# Altium footprint library Connectors.PcbLib: 56 footprints (part 4 of 4)
Each footprint in its own frame and in the unit in brackets; x right, y up, seen from the top. Pads: shape width x height; smd on the part's side, far side on the other; paste and mask are expansions set on the pad; w line width, h text height; cw(c..) or ccw(c..) is an arc to the next point about the centre after c.
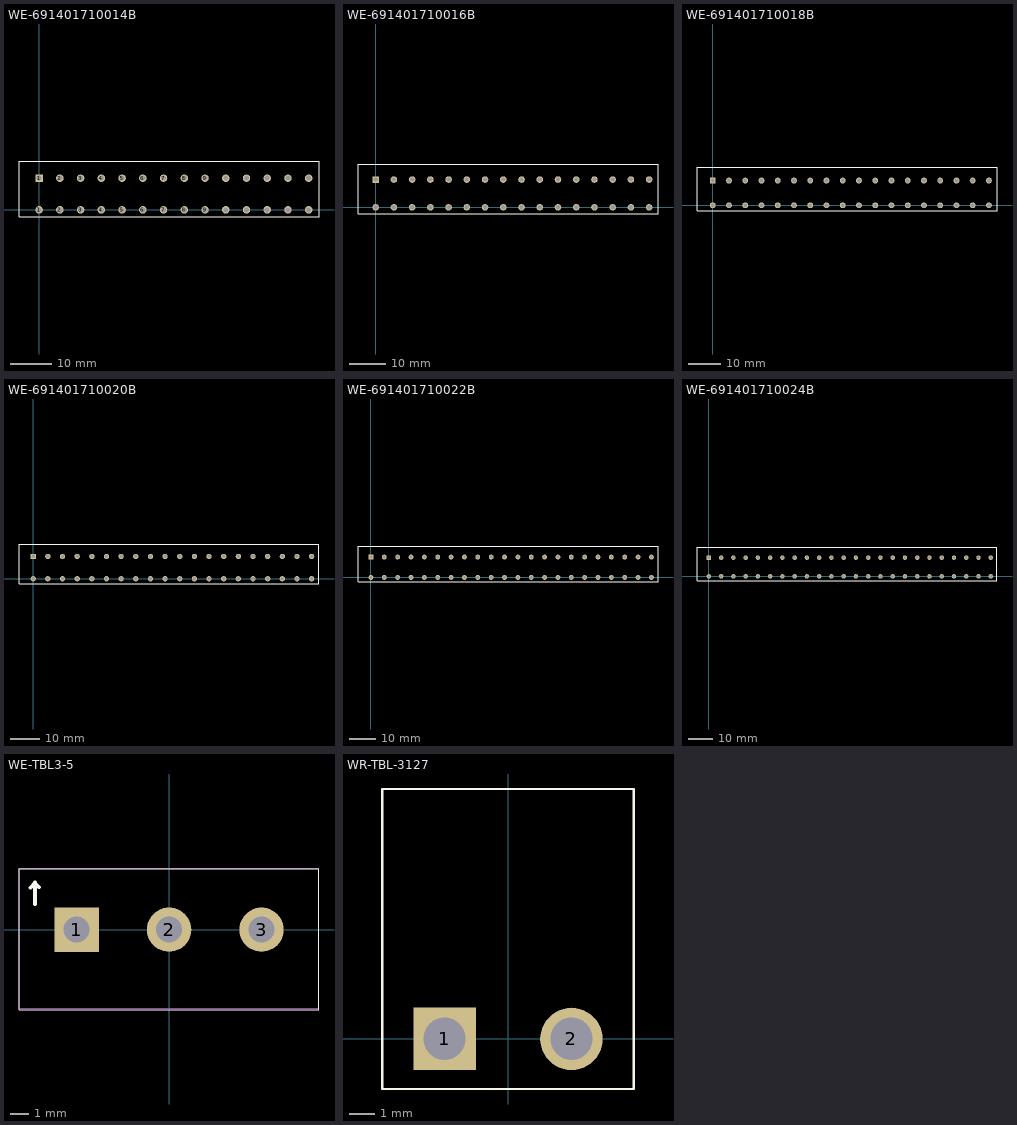
[diagram p3: the footprints below, top view; thin cyan lines are the x and y axes]

## WE-691401710014B [mm] "WE-691401710014B"
pads (28):
  round 1.8 hole 1.2: 1(0,0) 2(5,0) 2(5,7.62) 3(10,0) 3(10,7.62) 4(15,0) 4(15,7.62) 5(20,0) 5(20,7.62) 6(25,0) 6(25,7.62) 7(30,0) 7(30,7.62) 8(35,0) 8(35,7.62) 9(40,0) 9(40,7.62) 10(45,0) 10(45,7.62) 11(50,0) 11(50,7.62) 12(55,0) 12(55,7.62) 13(60,0) 13(60,7.62) 14(65,0) 14(65,7.62)
  rect 1.8x1.8 hole 1.2: 1(0,7.62)
Top Overlay:
  lines w0.2: -4.85,-1.71 67.48,-1.71 67.48,11.76 -4.85,11.76 -4.85,-1.71
3D body "691401710014B.stp": height 13.6, standoff -3.2, extent -4.98,-1.75 67.56,12.45

## WE-691401710016B [mm] "WE-691401710016B"
pads (32):
  round 1.8 hole 1.2: 1(0,0) 2(5,0) 2(5,7.62) 3(10,0) 3(10,7.62) 4(15,0) 4(15,7.62) 5(20,0) 5(20,7.62) 6(25,0) 6(25,7.62) 7(30,0) 7(30,7.62) 8(35,0) 8(35,7.62) 9(40,0) 9(40,7.62) 10(45,0) 10(45,7.62) 11(50,0) 11(50,7.62) 12(55,0) 12(55,7.62) 13(60,0) 13(60,7.62) 14(65,0) 14(65,7.62) 15(70,0) 15(70,7.62) 16(75,0) 16(75,7.62)
  rect 1.8x1.8 hole 1.2: 1(0,7.62)
Top Overlay:
  lines w0.2: -4.85,-1.71 -4.85,11.76 77.43,11.76 77.43,-1.71 -4.85,-1.71
3D body "691401710016B.stp": height 13.6, standoff -3.2, extent -4.98,-1.75 77.56,12.45

## WE-691401710018B [mm] "WE-691401710018B"
pads (36):
  round 1.8 hole 1.2: 1(0,0) 2(5,0) 2(5,7.62) 3(10,0) 3(10,7.62) 4(15,0) 4(15,7.62) 5(20,0) 5(20,7.62) 6(25,0) 6(25,7.62) 7(30,0) 7(30,7.62) 8(35,0) 8(35,7.62) 9(40,0) 9(40,7.62) 10(45,0) 10(45,7.62) 11(50,0) 11(50,7.62) 12(55,0) 12(55,7.62) 13(60,0) 13(60,7.62) 14(65,0) 14(65,7.62) 15(70,0) 15(70,7.62) 16(75,0) 16(75,7.62) 17(80,0) 17(80,7.62) 18(85,0) 18(85,7.62)
  rect 1.8x1.8 hole 1.2: 1(0,7.62)
Top Overlay:
  lines w0.2: -4.85,-1.71 87.49,-1.71 87.49,11.76 -4.85,11.76 -4.85,-1.71
3D body "691401710018B.stp": height 13.6, standoff -3.2, extent -4.98,-1.75 87.56,12.45

## WE-691401710020B [mm] "WE-691401710020B"
pads (40):
  round 1.8 hole 1.2: 1(0,0) 2(5,0) 2(5,7.62) 3(10,0) 3(10,7.62) 4(15,0) 4(15,7.62) 5(20,0) 5(20,7.62) 6(25,0) 6(25,7.62) 7(30,0) 7(30,7.62) 8(35,0) 8(35,7.62) 9(40,0) 9(40,7.62) 10(45,0) 10(45,7.62) 11(50,0) 11(50,7.62) 12(55,0) 12(55,7.62) 13(60,0) 13(60,7.62) 14(65,0) 14(65,7.62) 15(70,0) 15(70,7.62) 16(75,0) 16(75,7.62) 17(80,0) 17(80,7.62) 18(85,0) 18(85,7.62) 19(90,0) 19(90,7.62) 20(95,0) 20(95,7.62)
  rect 1.8x1.8 hole 1.2: 1(0,7.62)
Top Overlay:
  lines w0.2: -4.85,-1.71 97.52,-1.71 97.52,11.76 -4.85,11.76 -4.85,-1.71
3D body "691401710020B.stp": height 13.6, standoff -3.2, extent -4.98,-1.75 97.56,12.45

## WE-691401710022B [mm] "WE-691401710022B"
pads (44):
  round 1.8 hole 1.2: 1(0,0) 2(5,0) 2(5,7.62) 3(10,0) 3(10,7.62) 4(15,0) 4(15,7.62) 5(20,0) 5(20,7.62) 6(25,0) 6(25,7.62) 7(30,0) 7(30,7.62) 8(35,0) 8(35,7.62) 9(40,0) 9(40,7.62) 10(45,0) 10(45,7.62) 11(50,0) 11(50,7.62) 12(55,0) 12(55,7.62) 13(60,0) 13(60,7.62) 14(65,0) 14(65,7.62) 15(70,0) 15(70,7.62) 16(75,0) 16(75,7.62) 17(80,0) 17(80,7.62) 18(85,0) 18(85,7.62) 19(90,0) 19(90,7.62) 20(95,0) 20(95,7.62) 21(100,0) 21(100,7.62) 22(105,0) 22(105,7.62)
  rect 1.8x1.8 hole 1.2: 1(0,7.62)
Top Overlay:
  lines w0.2: -4.85,-1.71 -4.85,11.76 107.46,11.76 107.46,-1.71 -4.85,-1.71
3D body "691401710022B.stp": height 13.6, standoff -3.2, extent -4.98,-1.75 107.56,12.45

## WE-691401710024B [mm] "WE-691401710024B"
pads (48):
  round 1.8 hole 1.2: 1(0,0) 2(5,0) 2(5,7.62) 3(10,0) 3(10,7.62) 4(15,0) 4(15,7.62) 5(20,0) 5(20,7.62) 6(25,0) 6(25,7.62) 7(30,0) 7(30,7.62) 8(35,0) 8(35,7.62) 9(40,0) 9(40,7.62) 10(45,0) 10(45,7.62) 11(50,0) 11(50,7.62) 12(55,0) 12(55,7.62) 13(60,0) 13(60,7.62) 14(65,0) 14(65,7.62) 15(70,0) 15(70,7.62) 16(75,0) 16(75,7.62) 17(80,0) 17(80,7.62) 18(85,0) 18(85,7.62) 19(90,0) 19(90,7.62) 20(95,0) 20(95,7.62) 21(100,0) 21(100,7.62) 22(105,0) 22(105,7.62) 23(110,0) 23(110,7.62) 24(115,0) 24(115,7.62)
  rect 1.8x1.8 hole 1.2: 1(0,7.62)
Top Overlay:
  lines w0.2: -4.85,-1.71 -4.85,11.76 117.55,11.76 117.55,-1.71 -4.85,-1.71
3D body "691401710024B.stp": height 13.6, standoff -3.2, extent -4.98,-1.75 117.56,12.45

## WE-TBL3-5 [mm] "WE, 691102710003"
height 13.8
pads (3):
  rect 2.4x2.4 hole 1.4: 1(-5,0)
  round 2.4 hole 1.4: 2(0,0) 3(5,0)
Top Overlay:
  lines w0.05: -8.12,-4.32 8.1,-4.32 8.1,3.29 -8.12,3.29 -8.12,-4.32
  lines w0.2: -7.51,2.26 -7.25,2.52 ; -7.25,1.39 -7.25,2.55 -7.25,2.52 ; -7.04,2.3 -7.25,2.51 -7.25,2.52
Mechanical 1:
  lines w0.05: -8.11,-4.26 8.11,-4.26 8.11,3.31 -8.11,3.31 -8.11,-4.26
3D body "STEP-691102710003-rev1.stp": height 9.95, standoff -3.45, extent -8.11,-4.25 8.09,3.25

## WR-TBL-3127 [mm] "Header horizontal, 2 pins"
height 8.5
pads (2):
  rect 2.5x2.5 hole 1.7: 1(-2.54,0)
  round 2.5 hole 1.7: 2(2.54,0)
Top Overlay:
  lines w0.1: -5.04,9.99 -5.04,-2 5.04,-2 5.04,10 -5.04,10
3D body "691312710002.stp": height 8.75, standoff -3.25, extent -4.99,-1.91 5.01,10.09